# Altium footprint library PcbLib.PcbLib: 43 footprints (part 3 of 3)
Each footprint in its own frame and in the unit in brackets; x right, y up, seen from the top. Pads: shape width x height; smd on the part's side, far side on the other; paste and mask are expansions set on the pad; w line width, h text height; cw(c..) or ccw(c..) is an arc to the next point about the centre after c.
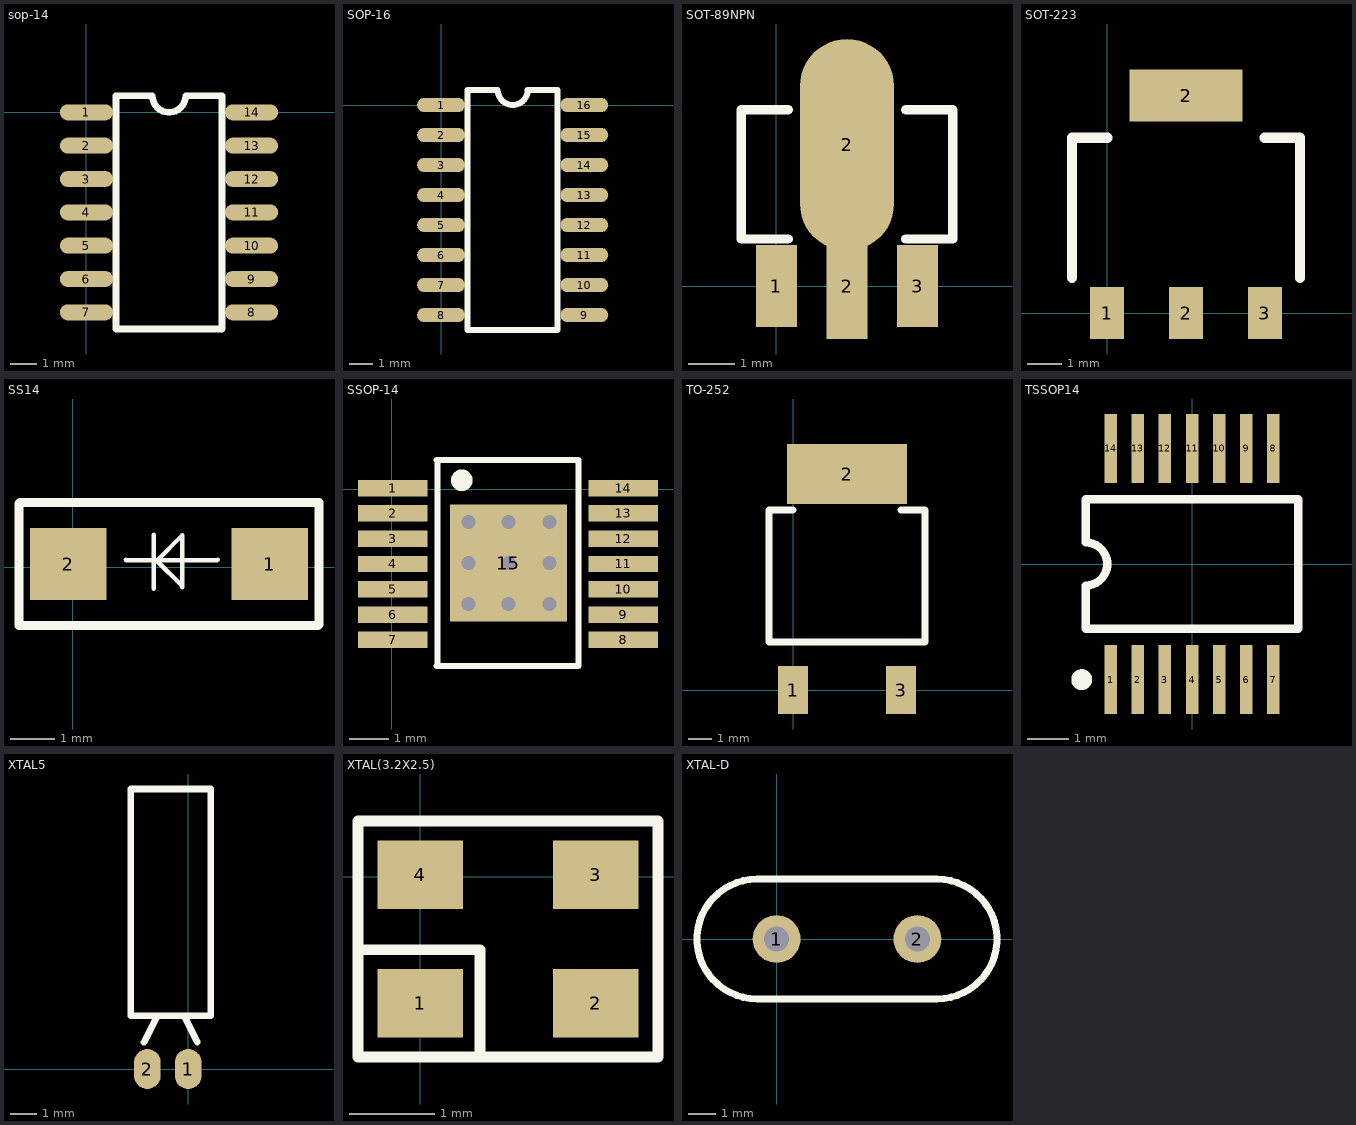
[diagram p2: the footprints below, top view; thin cyan lines are the x and y axes]

## sop-14 [mil]
height 43.31
pads (14):
  oval 80x24 smd: 1(0,0) 2(0,-50) 3(0,-100) 4(0,-150) 5(0,-200) 6(0,-250) 7(0,-300) 8(247.56,-300) 9(247.56,-250) 10(247.56,-200) 11(247.56,-150) 12(247.56,-100) 13(247.56,-50) 14(247.56,0)
Top Overlay:
  lines w10: 44.25,-325 203.31,-325 203.31,25 148.78,25 cw(c123.78,25) 98.78,25 44.25,25 44.25,-325

## SOP-16 [mil]
height 43.31
pads (16):
  oval 80x24 smd: 1(0,0) 2(0,-50) 3(0,-100) 4(0,-150) 5(0,-200) 6(0,-250) 7(0,-300) 8(0,-350) 9(238.5,-350) 10(238.5,-300) 11(238.5,-250) 12(238.5,-200) 13(238.5,-150) 14(238.5,-100) 15(238.5,-50) 16(238.5,0)
Top Overlay:
  lines w10: 44.25,-375 44.25,25 94.25,25 ccw(c119.25,25) 144.25,25 194.25,25 194.25,-375 44.25,-375

## SOT-89NPN [mil]
height 43.31
pads (4):
  rect 35x70 smd: 1(0,0) 3(120,0)
  rect 35x90 smd: 2(60,0)
  oval 80x180 smd: 2(60,120)
Top Overlay:
  lines w8: 10,40 -30,40 -30,150 10,150 ; 110,40 150,40 150,150 110,150

## SOT-223 [mil]
height 43.31
pads (4):
  rect 39x59 smd: 1(0,0) 3(180,0)
  rect 38.98x59.06 smd: 2(90,0)
  rect 129.13x59 smd: 2(90,248.03)
Top Overlay:
  lines w11.81: -40,40 -40,200 0,200 ; 180,200 220,200 220,40

## SS14 [mm]
height 1
pads (2):
  rect 1.7x1.6 smd: 1(4.4,0.075) 2(-0.1,0.075)
Top Overlay:
  lines w0.1: 1.185,0.175 1.198,0.162 1.866,0.162 ; 1.81,-0.475 1.81,0.725 ; 2.45,-0.448 2.45,-0.422 ; 3.235,0.175 3.222,0.162 2.679,0.162 1.79,0.162 1.866,0.162 ; 1.866,0.162 2.45,-0.422 ; 1.866,0.162 1.891,0.162 2.45,0.721 2.45,-0.422
  lines w0.2: -1.2,-0.725 -1.2,1.425 ; -1.2,1.2 -1.2,-1.3 0.1,-1.3 ; -0.975,-1.3 5.3,-1.3 ; -0.95,1.45 0.075,1.45 ; -0.3,-1.3 4.7,-1.3 ; -0.275,1.45 2.225,1.45 4.725,1.45 5.325,1.45 5.5,1.45 5.5,0.925 ; 5.5,-1.275 5.5,1.2
  lines w0.203: -1.2,1.425 -1.175,1.45 -0.175,1.45 ; 4.8,-1.3 5.475,-1.3 5.5,-1.275

## SSOP-14 [mm]
height 1.1
pads (15):
  rect 1.78x0.42 smd: 1(0.025,0.025) 2(0.025,-0.625) 3(0.025,-1.275) 4(0.025,-1.925) 5(0.025,-2.575) 6(0.025,-3.225) 7(0.025,-3.875) 8(5.95,-3.875) 9(5.95,-3.225) 10(5.95,-2.575) 11(5.95,-1.925) 12(5.95,-1.275) 13(5.95,-0.625) 14(5.95,0.025)
  rect 3x3 smd: 15(3,-1.9)
via 3,-2.95 diameter 0.711 hole 0.356
via 3,-1.9 diameter 0.711 hole 0.356
via 3,-0.85 diameter 0.711 hole 0.356
via 1.975,-1.9 diameter 0.711 hole 0.356
via 1.975,-2.95 diameter 0.711 hole 0.356
via 1.975,-0.85 diameter 0.711 hole 0.356
via 4.05,-1.9 diameter 0.711 hole 0.356
via 4.05,-2.95 diameter 0.711 hole 0.356
via 4.05,-0.85 diameter 0.711 hole 0.356
Top Overlay:
  circle w0.3: c1.8,0.225 r0.127
  lines w0.152: 1.15,-4.55 4.8,-4.55 4.8,0.75 1.15,0.75 1.175,0.725 1.175,-4.525 1.15,-4.55

## TO-252 [mil]
height 43.31
pads (3):
  rect 50x80 smd: 1(0,0) 3(180,0)
  rect 200x100 smd: 2(90,360)
Top Overlay:
  lines w11.81: -40,80 -40,300 0,300 ; 180,300 220,300 220,80
  lines w12: -40,80 220,80

## TSSOP14 [mm] "Shrink Small Outline; 14 Leads; Body Width 4.4 mm; Pitch 0.65 mm"
height 1.1
pads (14):
  rect 0.3x1.65 smd: 1(-1.95,-2.775) 2(-1.3,-2.775) 3(-0.65,-2.775) 4(0,-2.775) 5(0.65,-2.775) 6(1.3,-2.775) 7(1.95,-2.775) 8(1.95,2.775) 9(1.3,2.775) 10(0.65,2.775) 11(0,2.775) 12(-0.65,2.775) 13(-1.3,2.775) 14(-1.95,2.775)
Top Overlay:
  circle w0.25: c-2.65,-2.775 r0.125
  lines w0.2: -2.55,-1.55 -2.55,-0.517 ccw(c-2.55,0) -2.55,0.517 -2.55,1.55 2.55,1.55 2.55,-1.55 -2.55,-1.55

## XTAL5 [mm]
height 1
pads (2):
  oval 1x1.5 smd: 1(0,0) 2(-1.53,0)
Top Overlay:
  lines w0.25: -1.66,1 -1.16,2 ; -0.16,2 0.34,1 ; -2.16,2 -2.16,10.5 0.84,10.5 0.84,2 -2.16,2

## XTAL(3.2X2.5) [mm]
height 1.1
pads (4):
  rect 1x0.8 smd: 1(0,-1.475) 2(2.05,-1.475) 3(2.05,0.025) 4(0,0.025)
Top Overlay:
  lines w0.127: -0.725,-0.85 0.7,-0.85 0.7,-2.1 ; -0.725,-2.1 2.775,-2.1 2.775,0.65 -0.725,0.65 -0.725,-1.85 -0.725,-2.1

## XTAL-D [mil]
height 43.31
pads (2):
  round 68 hole 35.43: 1(0,0) 2(200,0)
Top Overlay:
  lines w10: -28,-85.01 cw(c-28,0) -28,85.01 228,85.01 cw(c228,0) 228,-85.01 -28,-85.01